# Altium integrated library NSC Logic Flip-Flop.IntLib: 466 symbols (part 3 of 10)
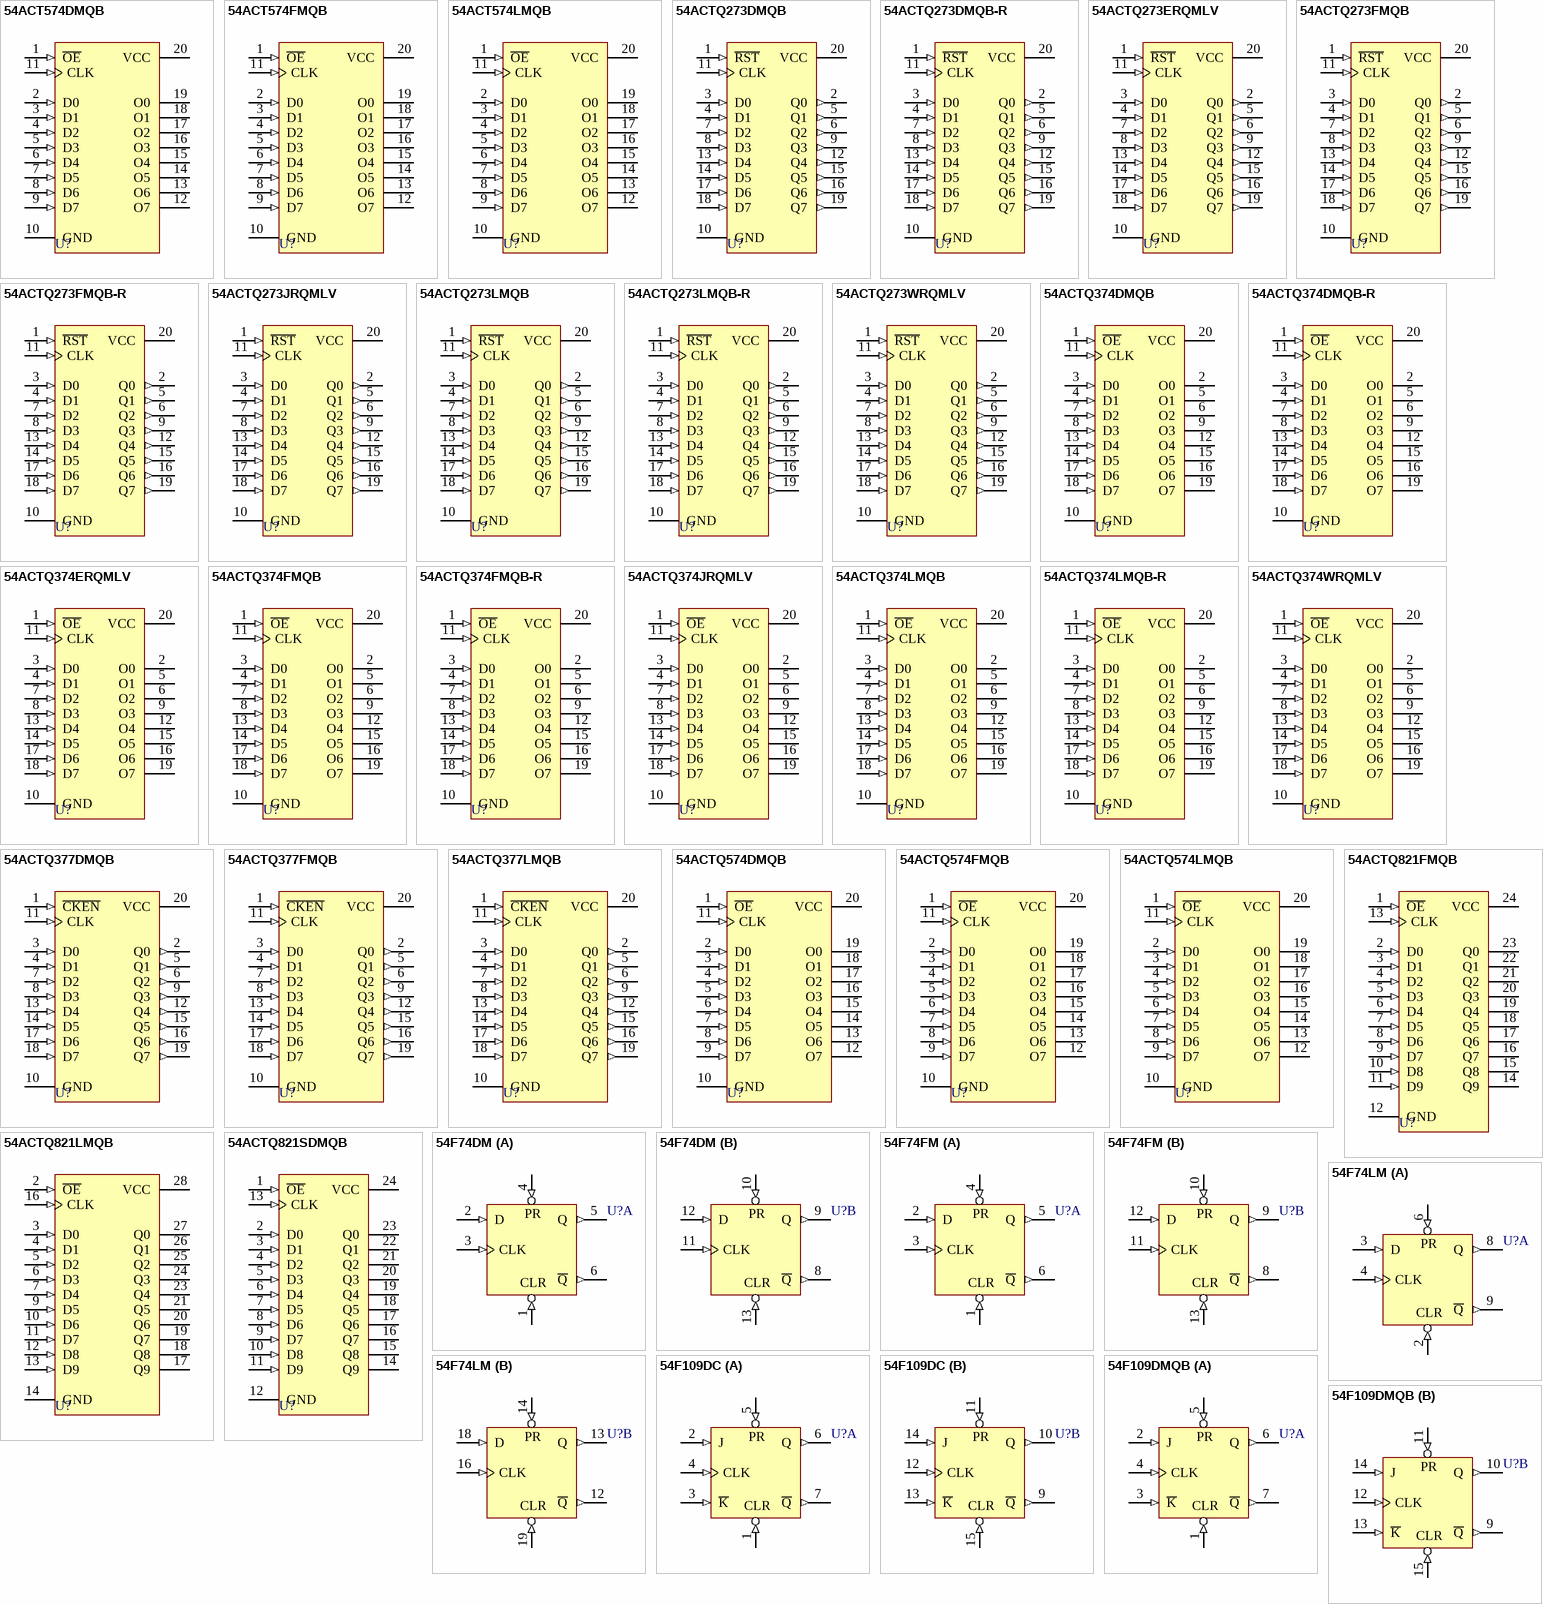
[diagram p17: symbols 54ACT574DMQB to 54F109DMQB]

## 54F109DMQB
designator U?
Dual J-K Positive Edge-Triggered Flip-Flop; Published: 15-Apr-2002; LatestRevisionDate: 06-Jun-2005; LatestRevisionNote: Stylized 3D Model Added.; DatasheetVersion: Nov-1994; PackageVersion: 2000; PackageReference: J16A; Publisher: Altium Limited; PackageDescription: DIP; 16 Leads; Row Spacing 7.62 mm; Pitch 2.54 mm; ComponentLink1Description: Manufacturer Link; ComponentLink1URL: http://www.national.com/; ComponentLink2Description: Datasheet; ComponentLink2URL: http://www.national.com/ds.cgi/54/54F109.pdf; ComponentLink3Description: URL Link1; ComponentLink3URL: http://www.national.com/pf/54/54F109.html
footprint J16A (DIP; 16 Leads; Row Spacing 7.62 mm; Pitch 2.54 mm)
3D model J16A (DIP; 16 Leads; Row Spacing 7.62 mm; Pitch 2.54 mm)
simulation model 74F109 (SIMCODE)
signal-integrity model 54F109DMQB
pins on every part: 8 GND (power) hidden to GND, 16 VCC (power) hidden to VCC
part A pins: 1 CLR (in), 2 J (in), 3 ~{K} (in), 4 CLK (in), 5 PR (in), 6 Q (out), 7 ~{Q} (out)
part B pins: 9 ~{Q} (out), 10 Q (out), 11 PR (in), 12 CLK (in), 13 ~{K} (in), 14 J (in), 15 CLR (in)

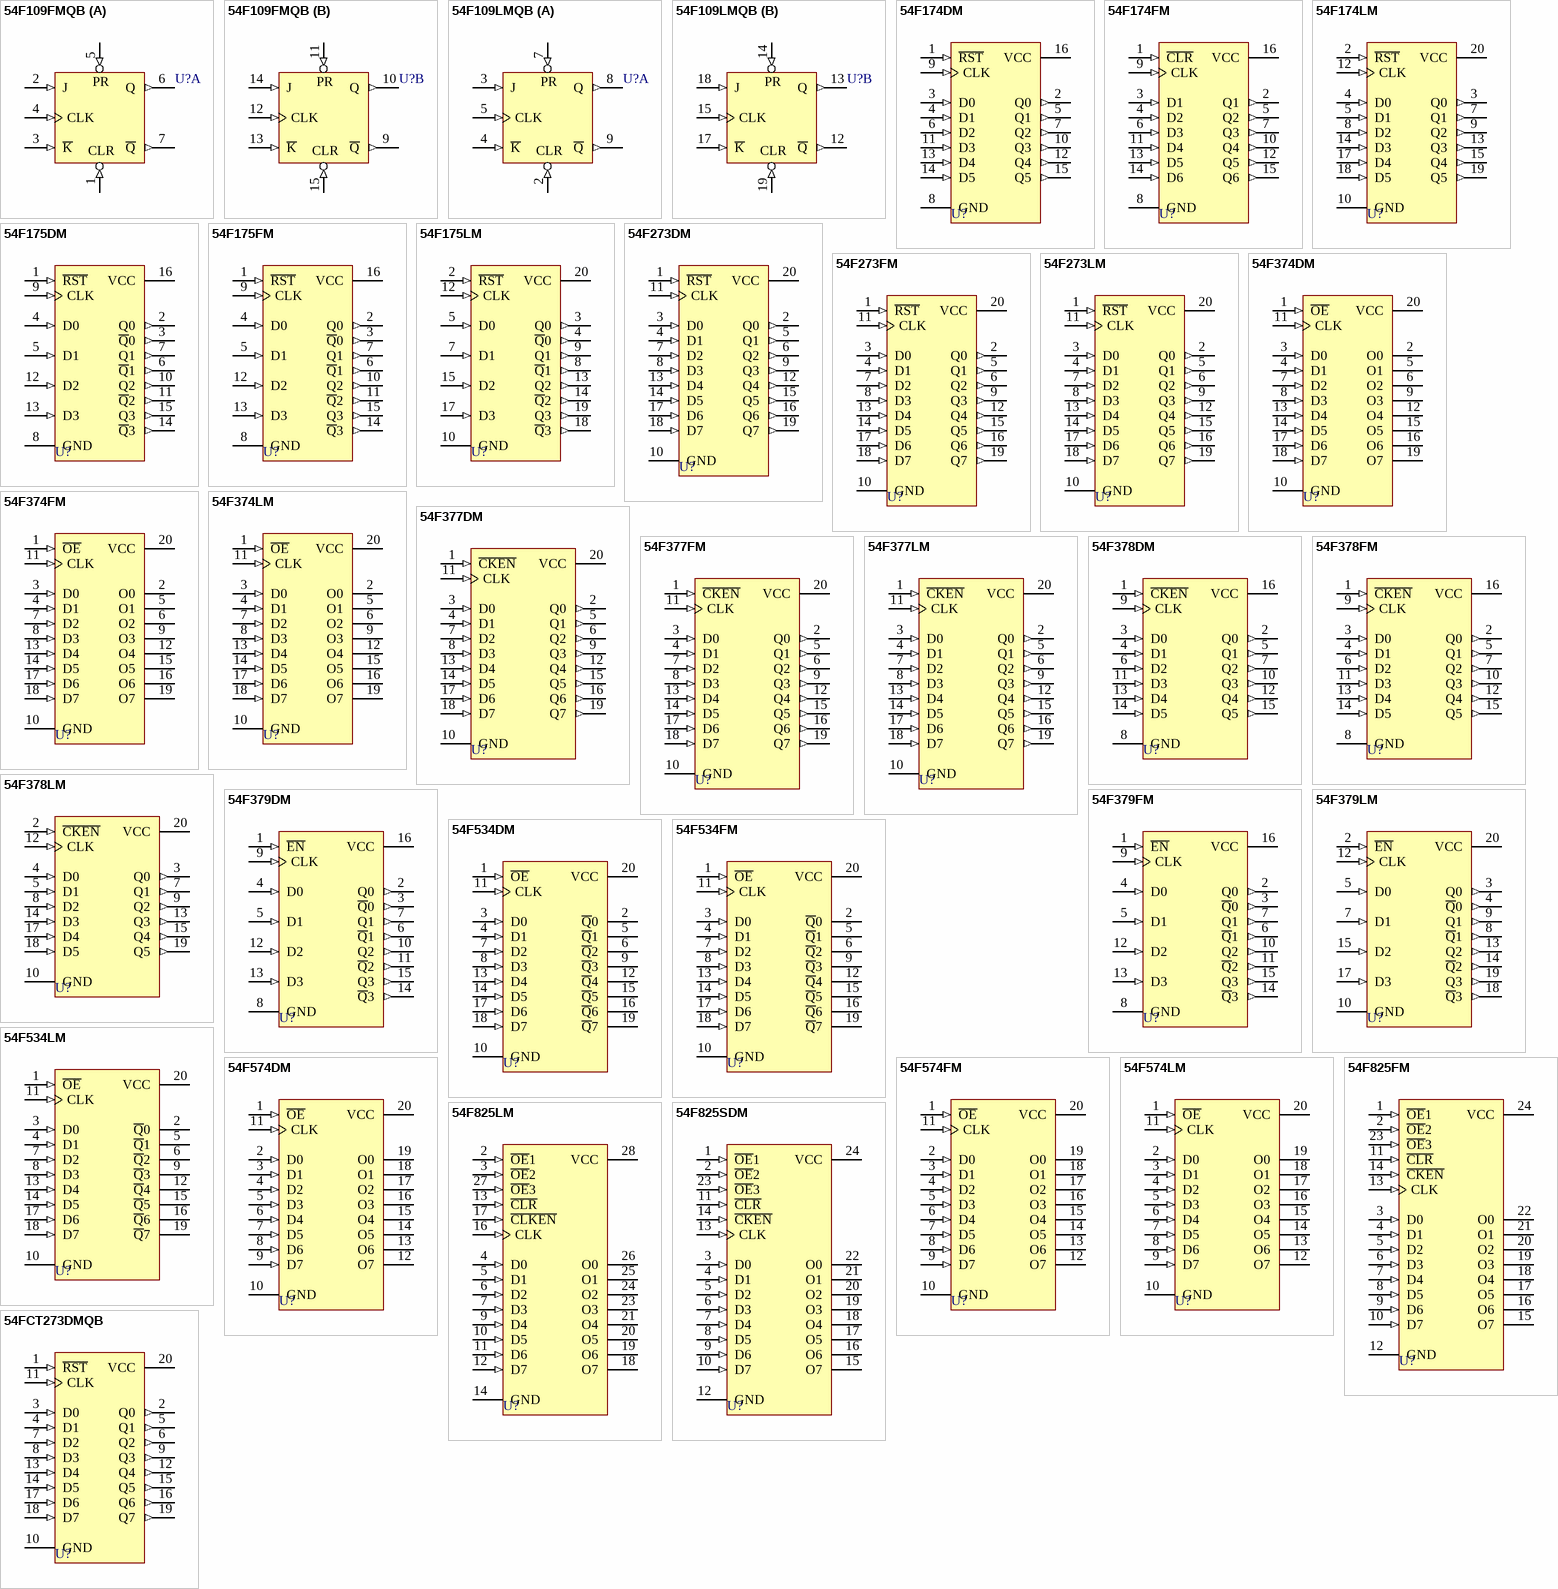
[diagram p3: symbols 54F109FMQB to 54FCT273DMQB]

## 54F109FMQB
designator U?
Dual J-K Positive Edge-Triggered Flip-Flop; Published: 15-Apr-2002; LatestRevisionDate: 06-Jun-2005; LatestRevisionNote: Stylized 3D Model Added.; DatasheetVersion: Nov-1994; PackageVersion: 2000; PackageReference: W16A; Publisher: Altium Limited; PackageDescription: DFP; 16 Leads; Body 9.9 x 7.6 mm (LxW max); Pitch 1.27 mm; ComponentLink1Description: Manufacturer Link; ComponentLink1URL: http://www.national.com/; ComponentLink2Description: Datasheet; ComponentLink2URL: http://www.national.com/ds.cgi/54/54F109.pdf; ComponentLink3Description: URL Link1; ComponentLink3URL: http://www.national.com/pf/54/54F109.html
footprint W16A (DFP; 16 Leads; Body 9.9 x 7.6 mm (LxW max); Pitch 1.27 mm)
3D model W16A (DFP; 16 Leads; Body 9.9 x 7.6 mm (LxW max); Pitch 1.27 mm)
simulation model 74F109 (SIMCODE)
signal-integrity model 54F109FMQB
pins on every part: 8 GND (power) hidden to GND, 16 VCC (power) hidden to VCC
part A pins: 1 CLR (in), 2 J (in), 3 ~{K} (in), 4 CLK (in), 5 PR (in), 6 Q (out), 7 ~{Q} (out)
part B pins: 9 ~{Q} (out), 10 Q (out), 11 PR (in), 12 CLK (in), 13 ~{K} (in), 14 J (in), 15 CLR (in)

## 54F109LMQB
designator U?
Dual J-K Positive Edge-Triggered Flip-Flop; Note: Pins 1, 6, 11 and 16 are not connected and not drawn.; Published: 15-Apr-2002; DatasheetVersion: Nov-1994; PackageVersion: 2000; PackageReference: E20A; Publisher: Altium Limited; PackageDescription: Leadless Chip Carrier; 20 Terminals; Body 8.9 x 8.9 mm; ComponentLink1Description: Manufacturer Link; ComponentLink1URL: http://www.national.com/; ComponentLink2Description: Datasheet; ComponentLink2URL: http://www.national.com/ds.cgi/54/54F109.pdf; ComponentLink3Description: URL Link1; ComponentLink3URL: http://www.national.com/pf/54/54F109.html
footprint E20A (Leadless Chip Carrier; 20 Terminals; Body 8.9 x 8.9 mm)
simulation model 74F109 (SIMCODE)
signal-integrity model 54F109LMQB
pins on every part: 10 GND (power) hidden to GND, 20 VCC (power) hidden to VCC
part A pins: 2 CLR (in), 3 J (in), 4 ~{K} (in), 5 CLK (in), 7 PR (in), 8 Q (out), 9 ~{Q} (out)
part B pins: 12 ~{Q} (out), 13 Q (out), 14 PR (in), 15 CLK (in), 17 ~{K} (in), 18 J (in), 19 CLR (in)

## 54F174DM
designator U?
Hex D-Type Flip-Flop with Master Reset; Published: 15-Apr-2002; LatestRevisionDate: 06-Jun-2005; LatestRevisionNote: Stylized 3D Model Added.; DatasheetVersion: Nov-1994; PackageVersion: 2000; PackageReference: J16A; Publisher: Altium Limited; PackageDescription: DIP; 16 Leads; Row Spacing 7.62 mm; Pitch 2.54 mm; ComponentLink1Description: Manufacturer Link; ComponentLink1URL: http://www.national.com/; ComponentLink2Description: Datasheet; ComponentLink2URL: http://www.national.com/ds.cgi/54/54F174.pdf; ComponentLink3Description: URL Link1; ComponentLink3URL: http://www.national.com/pf/54/54F174.html
footprint J16A (DIP; 16 Leads; Row Spacing 7.62 mm; Pitch 2.54 mm)
3D model J16A (DIP; 16 Leads; Row Spacing 7.62 mm; Pitch 2.54 mm)
simulation model 74F174 (SIMCODE)
signal-integrity model 54F174DM
pins: 1 ~{RST} (in), 2 Q0 (out), 3 D0 (in), 4 D1 (in), 5 Q1 (out), 6 D2 (in), 7 Q2 (out), 8 GND (power), 9 CLK (in), 10 Q3 (out), 11 D3 (in), 12 Q4 (out), 13 D4 (in), 14 D5 (in), 15 Q5 (out), 16 VCC (power)

## 54F174FM
designator U?
Hex D-Type Flip-Flop with Master Reset; Published: 15-Apr-2002; LatestRevisionDate: 06-Jun-2005; LatestRevisionNote: Stylized 3D Model Added.; DatasheetVersion: Nov-1994; PackageVersion: 2000; PackageReference: W16A; Publisher: Altium Limited; PackageDescription: DFP; 16 Leads; Body 9.9 x 7.6 mm (LxW max); Pitch 1.27 mm; ComponentLink1Description: Manufacturer Link; ComponentLink1URL: http://www.national.com/; ComponentLink2Description: Datasheet; ComponentLink2URL: http://www.national.com/ds.cgi/54/54F174.pdf; ComponentLink3Description: URL Link1; ComponentLink3URL: http://www.national.com/pf/54/54F174.html
footprint W16A (DFP; 16 Leads; Body 9.9 x 7.6 mm (LxW max); Pitch 1.27 mm)
3D model W16A (DFP; 16 Leads; Body 9.9 x 7.6 mm (LxW max); Pitch 1.27 mm)
simulation model 74F174 (SIMCODE)
signal-integrity model 54F174FM
pins: 1 ~{CLR} (in), 2 Q1 (out), 3 D1 (in), 4 D2 (in), 5 Q2 (out), 6 D3 (in), 7 Q3 (out), 8 GND (power), 9 CLK (in), 10 Q4 (out), 11 D4 (in), 12 Q5 (out), 13 D5 (in), 14 D6 (in), 15 Q6 (out), 16 VCC (power)

## 54F174LM
designator U?
Hex D-Type Flip-Flop with Master Reset; Note: Pins 1, 6, 11 and 16 are not connected and not drawn.; Published: 15-Apr-2002; DatasheetVersion: Nov-1994; PackageVersion: 2000; PackageReference: E20A; Publisher: Altium Limited; PackageDescription: Leadless Chip Carrier; 20 Terminals; Body 8.9 x 8.9 mm; ComponentLink1Description: Manufacturer Link; ComponentLink1URL: http://www.national.com/; ComponentLink2Description: Datasheet; ComponentLink2URL: http://www.national.com/ds.cgi/54/54F174.pdf; ComponentLink3Description: URL Link1; ComponentLink3URL: http://www.national.com/pf/54/54F174.html
footprint E20A (Leadless Chip Carrier; 20 Terminals; Body 8.9 x 8.9 mm)
simulation model 74F174 (SIMCODE)
signal-integrity model 54F174LM
pins: 2 ~{RST} (in), 3 Q0 (out), 4 D0 (in), 5 D1 (in), 7 Q1 (out), 8 D2 (in), 9 Q2 (out), 10 GND (power), 12 CLK (in), 13 Q3 (out), 14 D3 (in), 15 Q4 (out), 17 D4 (in), 18 D5 (in), 19 Q5 (out), 20 VCC (power)

## 54F175DM
designator U?
Quad D-Type Flip-Flop; Published: 15-Apr-2002; LatestRevisionDate: 06-Jun-2005; LatestRevisionNote: Stylized 3D Model Added.; DatasheetVersion: Nov-1994; PackageVersion: 2000; PackageReference: J16A; Publisher: Altium Limited; PackageDescription: DIP; 16 Leads; Row Spacing 7.62 mm; Pitch 2.54 mm; ComponentLink1Description: Manufacturer Link; ComponentLink1URL: http://www.national.com/; ComponentLink2Description: Datasheet; ComponentLink2URL: http://www.national.com/ds.cgi/54/54F175.pdf; ComponentLink3Description: URL Link1; ComponentLink3URL: http://www.national.com/pf/54/54F175.html
footprint J16A (DIP; 16 Leads; Row Spacing 7.62 mm; Pitch 2.54 mm)
3D model J16A (DIP; 16 Leads; Row Spacing 7.62 mm; Pitch 2.54 mm)
simulation model 74F175 (SIMCODE)
signal-integrity model 54F175DM
pins: 1 ~{RST} (in), 2 Q0 (out), 3 ~{Q}0 (out), 4 D0 (in), 5 D1 (in), 6 ~{Q}1 (out), 7 Q1 (out), 8 GND (power), 9 CLK (in), 10 Q2 (out), 11 ~{Q}2 (out), 12 D2 (in), 13 D3 (in), 14 ~{Q}3 (out), 15 Q3 (out), 16 VCC (power)

## 54F175FM
designator U?
Quad D-Type Flip-Flop; Published: 15-Apr-2002; LatestRevisionDate: 06-Jun-2005; LatestRevisionNote: Stylized 3D Model Added.; DatasheetVersion: Nov-1994; PackageVersion: 2000; PackageReference: W16A; Publisher: Altium Limited; PackageDescription: DFP; 16 Leads; Body 9.9 x 7.6 mm (LxW max); Pitch 1.27 mm; ComponentLink1Description: Manufacturer Link; ComponentLink1URL: http://www.national.com/; ComponentLink2Description: Datasheet; ComponentLink2URL: http://www.national.com/ds.cgi/54/54F175.pdf; ComponentLink3Description: URL Link1; ComponentLink3URL: http://www.national.com/pf/54/54F175.html
footprint W16A (DFP; 16 Leads; Body 9.9 x 7.6 mm (LxW max); Pitch 1.27 mm)
3D model W16A (DFP; 16 Leads; Body 9.9 x 7.6 mm (LxW max); Pitch 1.27 mm)
simulation model 74F175 (SIMCODE)
signal-integrity model 54F175FM
pins: 1 ~{RST} (in), 2 Q0 (out), 3 ~{Q}0 (out), 4 D0 (in), 5 D1 (in), 6 ~{Q}1 (out), 7 Q1 (out), 8 GND (power), 9 CLK (in), 10 Q2 (out), 11 ~{Q}2 (out), 12 D2 (in), 13 D3 (in), 14 ~{Q}3 (out), 15 Q3 (out), 16 VCC (power)

## 54F175LM
designator U?
Quad D-Type Flip-Flop; Note: Pins 1, 6, 11 and 16 are not connected and not drawn.; Published: 15-Apr-2002; DatasheetVersion: Nov-1994; PackageVersion: 2000; PackageReference: E20A; Publisher: Altium Limited; PackageDescription: Leadless Chip Carrier; 20 Terminals; Body 8.9 x 8.9 mm; ComponentLink1Description: Manufacturer Link; ComponentLink1URL: http://www.national.com/; ComponentLink2Description: Datasheet; ComponentLink2URL: http://www.national.com/ds.cgi/54/54F175.pdf; ComponentLink3Description: URL Link1; ComponentLink3URL: http://www.national.com/pf/54/54F175.html
footprint E20A (Leadless Chip Carrier; 20 Terminals; Body 8.9 x 8.9 mm)
simulation model 74F175 (SIMCODE)
signal-integrity model 54F175LM
pins: 2 ~{RST} (in), 3 Q0 (out), 4 ~{Q}0 (out), 5 D0 (in), 7 D1 (in), 8 ~{Q}1 (out), 9 Q1 (out), 10 GND (power), 12 CLK (in), 13 Q2 (out), 14 ~{Q}2 (out), 15 D2 (in), 17 D3 (in), 18 ~{Q}3 (out), 19 Q3 (out), 20 VCC (power)

## 54F273DM
designator U?
Octal D-Type Flip-Flop; ComponentAvailability: Obsolete; Published: 15-Apr-2002; LatestRevisionDate: 06-Jun-2005; LatestRevisionNote: Stylized 3D Model Added.; DatasheetVersion: May-1995; PackageVersion: 2000; PackageReference: J20A; Publisher: Altium Limited; PackageDescription: DIP; 20 Leads; Row Spacing 7.62 mm; Pitch 2.54 mm; Code_JEDEC: MS-015-AE; ComponentLink1Description: Manufacturer Link; ComponentLink1URL: http://www.national.com/; ComponentLink2Description: Datasheet; ComponentLink2URL: http://www.national.com/ds.cgi/54/54F273.pdf; ComponentLink3Description: Discontinuation Notice; ComponentLink3URL: http://www.national.com/obs/obsolescence.txt; ComponentLink4Description: URL Link1; ComponentLink4URL: http://www.national.com/pf/54/54F273.html
footprint J20A (DIP; 20 Leads; Row Spacing 7.62 mm; Pitch 2.54 mm)
3D model J20A (DIP; 20 Leads; Row Spacing 7.62 mm; Pitch 2.54 mm)
simulation model 74F273 (SIMCODE)
signal-integrity model 54F273DM
pins: 1 ~{RST} (in), 2 Q0 (out), 3 D0 (in), 4 D1 (in), 5 Q1 (out), 6 Q2 (out), 7 D2 (in), 8 D3 (in), 9 Q3 (out), 10 GND (power), 11 CLK (in), 12 Q4 (out), 13 D4 (in), 14 D5 (in), 15 Q5 (out), 16 Q6 (out), 17 D6 (in), 18 D7 (in), 19 Q7 (out), 20 VCC (power)

## 54F273FM
designator U?
Octal D-Type Flip-Flop; Published: 15-Apr-2002; LatestRevisionDate: 06-Jun-2005; LatestRevisionNote: Stylized 3D Model Added.; DatasheetVersion: May-1995; PackageVersion: 2000; PackageReference: W20A; Publisher: Altium Limited; PackageDescription: DFP; 20 Leads; Body 13.7 x 7.2 mm (LxW max); Pitch 1.27 mm; ComponentLink1Description: Manufacturer Link; ComponentLink1URL: http://www.national.com/; ComponentLink2Description: Datasheet; ComponentLink2URL: http://www.national.com/ds.cgi/54/54F273.pdf; ComponentLink3Description: URL Link1; ComponentLink3URL: http://www.national.com/pf/54/54F273.html
footprint W20A (DFP; 20 Leads; Body 13.7 x 7.2 mm (LxW max); Pitch 1.27 mm)
3D model W20A (DFP; 20 Leads; Body 13.7 x 7.2 mm (LxW max); Pitch 1.27 mm)
simulation model 74F273 (SIMCODE)
signal-integrity model 54F273FM
pins: 1 ~{RST} (in), 2 Q0 (out), 3 D0 (in), 4 D1 (in), 5 Q1 (out), 6 Q2 (out), 7 D2 (in), 8 D3 (in), 9 Q3 (out), 10 GND (power), 11 CLK (in), 12 Q4 (out), 13 D4 (in), 14 D5 (in), 15 Q5 (out), 16 Q6 (out), 17 D6 (in), 18 D7 (in), 19 Q7 (out), 20 VCC (power)

## 54F273LM
designator U?
Octal D-Type Flip-Flop; Published: 15-Apr-2002; DatasheetVersion: May-1995; PackageVersion: 2000; PackageReference: E20A; Publisher: Altium Limited; PackageDescription: Leadless Chip Carrier; 20 Terminals; Body 8.9 x 8.9 mm; ComponentLink1Description: Manufacturer Link; ComponentLink1URL: http://www.national.com/; ComponentLink2Description: Datasheet; ComponentLink2URL: http://www.national.com/ds.cgi/54/54F273.pdf; ComponentLink3Description: URL Link1; ComponentLink3URL: http://www.national.com/pf/54/54F273.html
footprint E20A (Leadless Chip Carrier; 20 Terminals; Body 8.9 x 8.9 mm)
simulation model 74F273 (SIMCODE)
signal-integrity model 54F273LM
pins: 1 ~{RST} (in), 2 Q0 (out), 3 D0 (in), 4 D1 (in), 5 Q1 (out), 6 Q2 (out), 7 D2 (in), 8 D3 (in), 9 Q3 (out), 10 GND (power), 11 CLK (in), 12 Q4 (out), 13 D4 (in), 14 D5 (in), 15 Q5 (out), 16 Q6 (out), 17 D6 (in), 18 D7 (in), 19 Q7 (out), 20 VCC (power)

## 54F374DM
designator U?
Octal D-Type Flip-Flop with Tri-State Output; ComponentAvailability: Obsolete; Published: 15-Apr-2002; LatestRevisionDate: 06-Jun-2005; LatestRevisionNote: Stylized 3D Model Added.; DatasheetVersion: May-1995; PackageVersion: 2000; PackageReference: J20A; Publisher: Altium Limited; PackageDescription: DIP; 20 Leads; Row Spacing 7.62 mm; Pitch 2.54 mm; Code_JEDEC: MS-015-AE; ComponentLink1Description: Manufacturer Link; ComponentLink1URL: http://www.national.com/; ComponentLink2Description: Datasheet; ComponentLink2URL: http://www.national.com/ds.cgi/54/54F374.pdf; ComponentLink3Description: Discontinuation Notice; ComponentLink3URL: http://www.national.com/obs/obsolescence.txt; ComponentLink4Description: URL Link1; ComponentLink4URL: http://www.national.com/pf/54/54F374.html
footprint J20A (DIP; 20 Leads; Row Spacing 7.62 mm; Pitch 2.54 mm)
3D model J20A (DIP; 20 Leads; Row Spacing 7.62 mm; Pitch 2.54 mm)
simulation model 74F374 (SIMCODE)
signal-integrity model 54F374DM
pins: 1 ~{OE} (in), 2 O0 (hiz), 3 D0 (in), 4 D1 (in), 5 O1 (hiz), 6 O2 (hiz), 7 D2 (in), 8 D3 (in), 9 O3 (hiz), 10 GND (power), 11 CLK (in), 12 O4 (hiz), 13 D4 (in), 14 D5 (in), 15 O5 (hiz), 16 O6 (hiz), 17 D6 (in), 18 D7 (in), 19 O7 (hiz), 20 VCC (power)

## 54F374FM
designator U?
Octal D-Type Flip-Flop with Tri-State Output; Published: 15-Apr-2002; LatestRevisionDate: 06-Jun-2005; LatestRevisionNote: Stylized 3D Model Added.; DatasheetVersion: May-1995; PackageVersion: 2000; PackageReference: W20A; Publisher: Altium Limited; PackageDescription: DFP; 20 Leads; Body 13.7 x 7.2 mm (LxW max); Pitch 1.27 mm; ComponentLink1Description: Manufacturer Link; ComponentLink1URL: http://www.national.com/; ComponentLink2Description: Datasheet; ComponentLink2URL: http://www.national.com/ds.cgi/54/54F374.pdf; ComponentLink3Description: URL Link1; ComponentLink3URL: http://www.national.com/pf/54/54F374.html
footprint W20A (DFP; 20 Leads; Body 13.7 x 7.2 mm (LxW max); Pitch 1.27 mm)
3D model W20A (DFP; 20 Leads; Body 13.7 x 7.2 mm (LxW max); Pitch 1.27 mm)
simulation model 74F374 (SIMCODE)
signal-integrity model 54F374FM
pins: 1 ~{OE} (in), 2 O0 (hiz), 3 D0 (in), 4 D1 (in), 5 O1 (hiz), 6 O2 (hiz), 7 D2 (in), 8 D3 (in), 9 O3 (hiz), 10 GND (power), 11 CLK (in), 12 O4 (hiz), 13 D4 (in), 14 D5 (in), 15 O5 (hiz), 16 O6 (hiz), 17 D6 (in), 18 D7 (in), 19 O7 (hiz), 20 VCC (power)

## 54F374LM
designator U?
Octal D-Type Flip-Flop with Tri-State Output; Published: 15-Apr-2002; DatasheetVersion: May-1995; PackageVersion: 2000; PackageReference: E20A; Publisher: Altium Limited; PackageDescription: Leadless Chip Carrier; 20 Terminals; Body 8.9 x 8.9 mm; ComponentLink1Description: Manufacturer Link; ComponentLink1URL: http://www.national.com/; ComponentLink2Description: Datasheet; ComponentLink2URL: http://www.national.com/ds.cgi/54/54F374.pdf; ComponentLink3Description: URL Link1; ComponentLink3URL: http://www.national.com/pf/54/54F374.html
footprint E20A (Leadless Chip Carrier; 20 Terminals; Body 8.9 x 8.9 mm)
simulation model 74F374 (SIMCODE)
signal-integrity model 54F374LM
pins: 1 ~{OE} (in), 2 O0 (hiz), 3 D0 (in), 4 D1 (in), 5 O1 (hiz), 6 O2 (hiz), 7 D2 (in), 8 D3 (in), 9 O3 (hiz), 10 GND (power), 11 CLK (in), 12 O4 (hiz), 13 D4 (in), 14 D5 (in), 15 O5 (hiz), 16 O6 (hiz), 17 D6 (in), 18 D7 (in), 19 O7 (hiz), 20 VCC (power)

## 54F377DM
designator U?
Octal D-Type Flip-Flop with Clock Enable; Published: 15-Apr-2002; LatestRevisionDate: 06-Jun-2005; LatestRevisionNote: Stylized 3D Model Added.; DatasheetVersion: May-1995; PackageVersion: 2000; PackageReference: J20A; Publisher: Altium Limited; PackageDescription: DIP; 20 Leads; Row Spacing 7.62 mm; Pitch 2.54 mm; Code_JEDEC: MS-015-AE; ComponentLink1Description: Manufacturer Link; ComponentLink1URL: http://www.national.com/; ComponentLink2Description: Datasheet; ComponentLink2URL: http://www.national.com/ds.cgi/54/54F377.pdf; ComponentLink3Description: URL Link1; ComponentLink3URL: http://www.national.com/pf/54/54F377.html
footprint J20A (DIP; 20 Leads; Row Spacing 7.62 mm; Pitch 2.54 mm)
3D model J20A (DIP; 20 Leads; Row Spacing 7.62 mm; Pitch 2.54 mm)
simulation model 74F377 (SIMCODE)
signal-integrity model 54F377DM
pins: 1 ~{CKEN} (in), 2 Q0 (out), 3 D0 (in), 4 D1 (in), 5 Q1 (out), 6 Q2 (out), 7 D2 (in), 8 D3 (in), 9 Q3 (out), 10 GND (power), 11 CLK (in), 12 Q4 (out), 13 D4 (in), 14 D5 (in), 15 Q5 (out), 16 Q6 (out), 17 D6 (in), 18 D7 (in), 19 Q7 (out), 20 VCC (power)

## 54F377FM
designator U?
Octal D-Type Flip-Flop with Clock Enable; Published: 15-Apr-2002; LatestRevisionDate: 06-Jun-2005; LatestRevisionNote: Stylized 3D Model Added.; DatasheetVersion: May-1995; PackageVersion: 2000; PackageReference: W20A; Publisher: Altium Limited; PackageDescription: DFP; 20 Leads; Body 13.7 x 7.2 mm (LxW max); Pitch 1.27 mm; ComponentLink1Description: Manufacturer Link; ComponentLink1URL: http://www.national.com/; ComponentLink2Description: Datasheet; ComponentLink2URL: http://www.national.com/ds.cgi/54/54F377.pdf; ComponentLink3Description: URL Link1; ComponentLink3URL: http://www.national.com/pf/54/54F377.html
footprint W20A (DFP; 20 Leads; Body 13.7 x 7.2 mm (LxW max); Pitch 1.27 mm)
3D model W20A (DFP; 20 Leads; Body 13.7 x 7.2 mm (LxW max); Pitch 1.27 mm)
simulation model 74F377 (SIMCODE)
signal-integrity model 54F377FM
pins: 1 ~{CKEN} (in), 2 Q0 (out), 3 D0 (in), 4 D1 (in), 5 Q1 (out), 6 Q2 (out), 7 D2 (in), 8 D3 (in), 9 Q3 (out), 10 GND (power), 11 CLK (in), 12 Q4 (out), 13 D4 (in), 14 D5 (in), 15 Q5 (out), 16 Q6 (out), 17 D6 (in), 18 D7 (in), 19 Q7 (out), 20 VCC (power)

## 54F377LM
designator U?
Octal D-Type Flip-Flop with Clock Enable; Published: 15-Apr-2002; DatasheetVersion: May-1995; PackageVersion: 2000; PackageReference: E20A; Publisher: Altium Limited; PackageDescription: Leadless Chip Carrier; 20 Terminals; Body 8.9 x 8.9 mm; ComponentLink1Description: Manufacturer Link; ComponentLink1URL: http://www.national.com/; ComponentLink2Description: Datasheet; ComponentLink2URL: http://www.national.com/ds.cgi/54/54F377.pdf; ComponentLink3Description: URL Link1; ComponentLink3URL: http://www.national.com/pf/54/54F377.html
footprint E20A (Leadless Chip Carrier; 20 Terminals; Body 8.9 x 8.9 mm)
simulation model 74F377 (SIMCODE)
signal-integrity model 54F377LM
pins: 1 ~{CKEN} (in), 2 Q0 (out), 3 D0 (in), 4 D1 (in), 5 Q1 (out), 6 Q2 (out), 7 D2 (in), 8 D3 (in), 9 Q3 (out), 10 GND (power), 11 CLK (in), 12 Q4 (out), 13 D4 (in), 14 D5 (in), 15 Q5 (out), 16 Q6 (out), 17 D6 (in), 18 D7 (in), 19 Q7 (out), 20 VCC (power)

## 54F378DM
designator U?
Parallel D Register with Enable; ComponentAvailability: Obsolete; Published: 15-Apr-2002; LatestRevisionDate: 06-Jun-2005; LatestRevisionNote: Stylized 3D Model Added.; DatasheetVersion: Jan-1995; PackageVersion: 2000; PackageReference: J16A; Publisher: Altium Limited; PackageDescription: DIP; 16 Leads; Row Spacing 7.62 mm; Pitch 2.54 mm; ComponentLink1Description: Manufacturer Link; ComponentLink1URL: http://www.national.com/; ComponentLink2Description: Datasheet; ComponentLink2URL: http://www.national.com/ds.cgi/54/54F378.pdf; ComponentLink3Description: Discontinuation Notice; ComponentLink3URL: http://www.national.com/obs/obsolescence.txt; ComponentLink4Description: URL Link1; ComponentLink4URL: http://www.national.com/pf/54/54F378.html
footprint J16A (DIP; 16 Leads; Row Spacing 7.62 mm; Pitch 2.54 mm)
3D model J16A (DIP; 16 Leads; Row Spacing 7.62 mm; Pitch 2.54 mm)
simulation model 74F378 (SIMCODE)
signal-integrity model 54F378DM
pins: 1 ~{CKEN} (in), 2 Q0 (out), 3 D0 (in), 4 D1 (in), 5 Q1 (out), 6 D2 (in), 7 Q2 (out), 8 GND (power), 9 CLK (in), 10 Q3 (out), 11 D3 (in), 12 Q4 (out), 13 D4 (in), 14 D5 (in), 15 Q5 (out), 16 VCC (power)

## 54F378FM
designator U?
Parallel D Register with Enable; Published: 15-Apr-2002; LatestRevisionDate: 06-Jun-2005; LatestRevisionNote: Stylized 3D Model Added.; DatasheetVersion: Jan-1995; PackageVersion: 2000; PackageReference: W16A; Publisher: Altium Limited; PackageDescription: DFP; 16 Leads; Body 9.9 x 7.6 mm (LxW max); Pitch 1.27 mm; ComponentLink1Description: Manufacturer Link; ComponentLink1URL: http://www.national.com/; ComponentLink2Description: Datasheet; ComponentLink2URL: http://www.national.com/ds.cgi/54/54F378.pdf; ComponentLink3Description: URL Link1; ComponentLink3URL: http://www.national.com/pf/54/54F378.html
footprint W16A (DFP; 16 Leads; Body 9.9 x 7.6 mm (LxW max); Pitch 1.27 mm)
3D model W16A (DFP; 16 Leads; Body 9.9 x 7.6 mm (LxW max); Pitch 1.27 mm)
simulation model 74F378 (SIMCODE)
signal-integrity model 54F378FM
pins: 1 ~{CKEN} (in), 2 Q0 (out), 3 D0 (in), 4 D1 (in), 5 Q1 (out), 6 D2 (in), 7 Q2 (out), 8 GND (power), 9 CLK (in), 10 Q3 (out), 11 D3 (in), 12 Q4 (out), 13 D4 (in), 14 D5 (in), 15 Q5 (out), 16 VCC (power)

## 54F378LM
designator U?
Parallel D Register with Enable; Note: Pins 1, 6, 11 and 16 are not connected and not drawn.; Published: 15-Apr-2002; DatasheetVersion: Jan-1995; PackageVersion: 2000; PackageReference: E20A; Publisher: Altium Limited; PackageDescription: Leadless Chip Carrier; 20 Terminals; Body 8.9 x 8.9 mm; ComponentLink1Description: Manufacturer Link; ComponentLink1URL: http://www.national.com/; ComponentLink2Description: Datasheet; ComponentLink2URL: http://www.national.com/ds.cgi/54/54F378.pdf; ComponentLink3Description: URL Link1; ComponentLink3URL: http://www.national.com/pf/54/54F378.html
footprint E20A (Leadless Chip Carrier; 20 Terminals; Body 8.9 x 8.9 mm)
simulation model 74F378 (SIMCODE)
signal-integrity model 54F378LM
pins: 2 ~{CKEN} (in), 3 Q0 (out), 4 D0 (in), 5 D1 (in), 7 Q1 (out), 8 D2 (in), 9 Q2 (out), 10 GND (power), 12 CLK (in), 13 Q3 (out), 14 D3 (in), 15 Q4 (out), 17 D4 (in), 18 D5 (in), 19 Q5 (out), 20 VCC (power)

## 54F379DM
designator U?
Quad Parallel Register with Enable; ComponentAvailability: Obsolete; Published: 15-Apr-2002; LatestRevisionDate: 06-Jun-2005; LatestRevisionNote: Stylized 3D Model Added.; DatasheetVersion: Aug-1995; PackageVersion: 2000; PackageReference: J16A; Publisher: Altium Limited; PackageDescription: DIP; 16 Leads; Row Spacing 7.62 mm; Pitch 2.54 mm; ComponentLink1Description: Manufacturer Link; ComponentLink1URL: http://www.national.com/; ComponentLink2Description: Datasheet; ComponentLink2URL: http://www.national.com/ds.cgi/54/54F379.pdf; ComponentLink3Description: Discontinuation Notice; ComponentLink3URL: http://www.national.com/obs/obsolescence.txt; ComponentLink4Description: URL Link1; ComponentLink4URL: http://www.national.com/pf/54/54F379.html
footprint J16A (DIP; 16 Leads; Row Spacing 7.62 mm; Pitch 2.54 mm)
3D model J16A (DIP; 16 Leads; Row Spacing 7.62 mm; Pitch 2.54 mm)
signal-integrity model 54F379DM
pins: 1 ~{EN} (in), 2 Q0 (out), 3 ~{Q}0 (out), 4 D0 (in), 5 D1 (in), 6 ~{Q}1 (out), 7 Q1 (out), 8 GND (power), 9 CLK (in), 10 Q2 (out), 11 ~{Q}2 (out), 12 D2 (in), 13 D3 (in), 14 ~{Q}3 (out), 15 Q3 (out), 16 VCC (power)

## 54F379FM
designator U?
Quad Parallel Register with Enable; Published: 15-Apr-2002; LatestRevisionDate: 06-Jun-2005; LatestRevisionNote: Stylized 3D Model Added.; DatasheetVersion: Aug-1995; PackageVersion: 2000; PackageReference: W16A; Publisher: Altium Limited; PackageDescription: DFP; 16 Leads; Body 9.9 x 7.6 mm (LxW max); Pitch 1.27 mm; ComponentLink1Description: Manufacturer Link; ComponentLink1URL: http://www.national.com/; ComponentLink2Description: Datasheet; ComponentLink2URL: http://www.national.com/ds.cgi/54/54F379.pdf; ComponentLink3Description: URL Link1; ComponentLink3URL: http://www.national.com/pf/54/54F379.html
footprint W16A (DFP; 16 Leads; Body 9.9 x 7.6 mm (LxW max); Pitch 1.27 mm)
3D model W16A (DFP; 16 Leads; Body 9.9 x 7.6 mm (LxW max); Pitch 1.27 mm)
signal-integrity model 54F379FM
pins: 1 ~{EN} (in), 2 Q0 (out), 3 ~{Q}0 (out), 4 D0 (in), 5 D1 (in), 6 ~{Q}1 (out), 7 Q1 (out), 8 GND (power), 9 CLK (in), 10 Q2 (out), 11 ~{Q}2 (out), 12 D2 (in), 13 D3 (in), 14 ~{Q}3 (out), 15 Q3 (out), 16 VCC (power)

## 54F379LM
designator U?
Quad Parallel Register with Enable; Note: Pins 1,6,11 and 16 are not connected and not drawn.; Published: 15-Apr-2002; DatasheetVersion: Aug-1995; PackageVersion: 2000; PackageReference: E20A; Publisher: Altium Limited; PackageDescription: Leadless Chip Carrier; 20 Terminals; Body 8.9 x 8.9 mm; ComponentLink1Description: Manufacturer Link; ComponentLink1URL: http://www.national.com/; ComponentLink2Description: Datasheet; ComponentLink2URL: http://www.national.com/ds.cgi/54/54F379.pdf; ComponentLink3Description: URL Link1; ComponentLink3URL: http://www.national.com/pf/54/54F379.html
footprint E20A (Leadless Chip Carrier; 20 Terminals; Body 8.9 x 8.9 mm)
signal-integrity model 54F379LM
pins: 2 ~{EN} (in), 3 Q0 (out), 4 ~{Q}0 (out), 5 D0 (in), 7 D1 (in), 8 ~{Q}1 (out), 9 Q1 (out), 10 GND (power), 12 CLK (in), 13 Q2 (out), 14 ~{Q}2 (out), 15 D2 (in), 17 D3 (in), 18 ~{Q}3 (out), 19 Q3 (out), 20 VCC (power)

## 54F534DM
designator U?
Octal D-Type Flip-Flop with Tri-State Output; Published: 15-Apr-2002; LatestRevisionDate: 06-Jun-2005; LatestRevisionNote: Stylized 3D Model Added.; DatasheetVersion: May-1995; PackageVersion: 2000; PackageReference: J20A; Publisher: Altium Limited; PackageDescription: DIP; 20 Leads; Row Spacing 7.62 mm; Pitch 2.54 mm; Code_JEDEC: MS-015-AE; ComponentLink1Description: Manufacturer Link; ComponentLink1URL: http://www.national.com/; ComponentLink2Description: Datasheet; ComponentLink2URL: http://www.national.com/ds.cgi/54/54F534.pdf; ComponentLink3Description: URL Link1; ComponentLink3URL: http://www.national.com/pf/54/54F534.html
footprint J20A (DIP; 20 Leads; Row Spacing 7.62 mm; Pitch 2.54 mm)
3D model J20A (DIP; 20 Leads; Row Spacing 7.62 mm; Pitch 2.54 mm)
signal-integrity model 54F534DM
pins: 1 ~{OE} (in), 2 ~{Q}0 (hiz), 3 D0 (in), 4 D1 (in), 5 ~{Q}1 (hiz), 6 ~{Q}2 (hiz), 7 D2 (in), 8 D3 (in), 9 ~{Q}3 (hiz), 10 GND (power), 11 CLK (in), 12 ~{Q}4 (hiz), 13 D4 (in), 14 D5 (in), 15 ~{Q}5 (hiz), 16 ~{Q}6 (hiz), 17 D6 (in), 18 D7 (in), 19 ~{Q}7 (hiz), 20 VCC (power)

## 54F534FM
designator U?
Octal D-Type Flip-Flop with Tri-State Output; Published: 15-Apr-2002; LatestRevisionDate: 06-Jun-2005; LatestRevisionNote: Stylized 3D Model Added.; DatasheetVersion: May-1995; PackageVersion: 2000; PackageReference: W20A; Publisher: Altium Limited; PackageDescription: DFP; 20 Leads; Body 13.7 x 7.2 mm (LxW max); Pitch 1.27 mm; ComponentLink1Description: Manufacturer Link; ComponentLink1URL: http://www.national.com/; ComponentLink2Description: Datasheet; ComponentLink2URL: http://www.national.com/ds.cgi/54/54F534.pdf; ComponentLink3Description: URL Link1; ComponentLink3URL: http://www.national.com/pf/54/54F534.html
footprint W20A (DFP; 20 Leads; Body 13.7 x 7.2 mm (LxW max); Pitch 1.27 mm)
3D model W20A (DFP; 20 Leads; Body 13.7 x 7.2 mm (LxW max); Pitch 1.27 mm)
signal-integrity model 54F534FM
pins: 1 ~{OE} (in), 2 ~{Q}0 (hiz), 3 D0 (in), 4 D1 (in), 5 ~{Q}1 (hiz), 6 ~{Q}2 (hiz), 7 D2 (in), 8 D3 (in), 9 ~{Q}3 (hiz), 10 GND (power), 11 CLK (in), 12 ~{Q}4 (hiz), 13 D4 (in), 14 D5 (in), 15 ~{Q}5 (hiz), 16 ~{Q}6 (hiz), 17 D6 (in), 18 D7 (in), 19 ~{Q}7 (hiz), 20 VCC (power)

## 54F534LM
designator U?
Octal D-Type Flip-Flop with Tri-State Output; Published: 15-Apr-2002; DatasheetVersion: May-1995; PackageVersion: 2000; PackageReference: E20A; Publisher: Altium Limited; PackageDescription: Leadless Chip Carrier; 20 Terminals; Body 8.9 x 8.9 mm; ComponentLink1Description: Manufacturer Link; ComponentLink1URL: http://www.national.com/; ComponentLink2Description: Datasheet; ComponentLink2URL: http://www.national.com/ds.cgi/54/54F534.pdf; ComponentLink3Description: URL Link1; ComponentLink3URL: http://www.national.com/pf/54/54F534.html
footprint E20A (Leadless Chip Carrier; 20 Terminals; Body 8.9 x 8.9 mm)
signal-integrity model 54F534LM
pins: 1 ~{OE} (in), 2 ~{Q}0 (hiz), 3 D0 (in), 4 D1 (in), 5 ~{Q}1 (hiz), 6 ~{Q}2 (hiz), 7 D2 (in), 8 D3 (in), 9 ~{Q}3 (hiz), 10 GND (power), 11 CLK (in), 12 ~{Q}4 (hiz), 13 D4 (in), 14 D5 (in), 15 ~{Q}5 (hiz), 16 ~{Q}6 (hiz), 17 D6 (in), 18 D7 (in), 19 ~{Q}7 (hiz), 20 VCC (power)

## 54F574DM
designator U?
Octal D-Type Flip-Flop with Tri-State Output; Published: 15-Apr-2002; LatestRevisionDate: 06-Jun-2005; LatestRevisionNote: Stylized 3D Model Added.; DatasheetVersion: May-1995; PackageVersion: 2000; PackageReference: J20A; Publisher: Altium Limited; PackageDescription: DIP; 20 Leads; Row Spacing 7.62 mm; Pitch 2.54 mm; Code_JEDEC: MS-015-AE; ComponentLink1Description: Manufacturer Link; ComponentLink1URL: http://www.national.com/; ComponentLink2Description: Datasheet; ComponentLink2URL: http://www.national.com/ds.cgi/54/54F574.pdf; ComponentLink3Description: URL Link1; ComponentLink3URL: http://www.national.com/pf/54/54F574.html
footprint J20A (DIP; 20 Leads; Row Spacing 7.62 mm; Pitch 2.54 mm)
3D model J20A (DIP; 20 Leads; Row Spacing 7.62 mm; Pitch 2.54 mm)
signal-integrity model 54F574DM
pins: 1 ~{OE} (in), 2 D0 (in), 3 D1 (in), 4 D2 (in), 5 D3 (in), 6 D4 (in), 7 D5 (in), 8 D6 (in), 9 D7 (in), 10 GND (power), 11 CLK (in), 12 O7 (hiz), 13 O6 (hiz), 14 O5 (hiz), 15 O4 (hiz), 16 O3 (hiz), 17 O2 (hiz), 18 O1 (hiz), 19 O0 (hiz), 20 VCC (power)

## 54F574FM
designator U?
Octal D-Type Flip-Flop with Tri-State Output; Published: 15-Apr-2002; LatestRevisionDate: 06-Jun-2005; LatestRevisionNote: Stylized 3D Model Added.; DatasheetVersion: May-1995; PackageVersion: 2000; PackageReference: W20A; Publisher: Altium Limited; PackageDescription: DFP; 20 Leads; Body 13.7 x 7.2 mm (LxW max); Pitch 1.27 mm; ComponentLink1Description: Manufacturer Link; ComponentLink1URL: http://www.national.com/; ComponentLink2Description: Datasheet; ComponentLink2URL: http://www.national.com/ds.cgi/54/54F574.pdf; ComponentLink3Description: URL Link1; ComponentLink3URL: http://www.national.com/pf/54/54F574.html
footprint W20A (DFP; 20 Leads; Body 13.7 x 7.2 mm (LxW max); Pitch 1.27 mm)
3D model W20A (DFP; 20 Leads; Body 13.7 x 7.2 mm (LxW max); Pitch 1.27 mm)
signal-integrity model 54F574FM
pins: 1 ~{OE} (in), 2 D0 (in), 3 D1 (in), 4 D2 (in), 5 D3 (in), 6 D4 (in), 7 D5 (in), 8 D6 (in), 9 D7 (in), 10 GND (power), 11 CLK (in), 12 O7 (hiz), 13 O6 (hiz), 14 O5 (hiz), 15 O4 (hiz), 16 O3 (hiz), 17 O2 (hiz), 18 O1 (hiz), 19 O0 (hiz), 20 VCC (power)

## 54F574LM
designator U?
Octal D-Type Flip-Flop with Tri-State Output; Published: 15-Apr-2002; DatasheetVersion: May-1995; PackageVersion: 2000; PackageReference: E20A; Publisher: Altium Limited; PackageDescription: Leadless Chip Carrier; 20 Terminals; Body 8.9 x 8.9 mm; ComponentLink1Description: Manufacturer Link; ComponentLink1URL: http://www.national.com/; ComponentLink2Description: Datasheet; ComponentLink2URL: http://www.national.com/ds.cgi/54/54F574.pdf; ComponentLink3Description: URL Link1; ComponentLink3URL: http://www.national.com/pf/54/54F574.html
footprint E20A (Leadless Chip Carrier; 20 Terminals; Body 8.9 x 8.9 mm)
signal-integrity model 54F574LM
pins: 1 ~{OE} (in), 2 D0 (in), 3 D1 (in), 4 D2 (in), 5 D3 (in), 6 D4 (in), 7 D5 (in), 8 D6 (in), 9 D7 (in), 10 GND (power), 11 CLK (in), 12 O7 (hiz), 13 O6 (hiz), 14 O5 (hiz), 15 O4 (hiz), 16 O3 (hiz), 17 O2 (hiz), 18 O1 (hiz), 19 O0 (hiz), 20 VCC (power)

## 54F825FM
designator U?
8-Bit D-Type Flip-Flop; Published: 15-Apr-2002; LatestRevisionDate: 06-Jun-2005; LatestRevisionNote: Stylized 3D Model Added.; DatasheetVersion: Dec-1994; PackageVersion: 2000; PackageReference: W24C; Publisher: Altium Limited; PackageDescription: DFP; 24 Leads; Body 15.6 x 10.7 mm (LxW max); Pitch 1.27 mm; ComponentLink1Description: Manufacturer Link; ComponentLink1URL: http://www.national.com/; ComponentLink2Description: Datasheet; ComponentLink2URL: http://www.national.com/ds.cgi/54/54F825.pdf; ComponentLink3Description: URL Link1; ComponentLink3URL: http://www.national.com/pf/54/54F825.html
footprint W24C (DFP; 24 Leads; Body 15.6 x 10.7 mm (LxW max); Pitch 1.27 mm)
3D model W24C (DFP; 24 Leads; Body 15.6 x 10.7 mm (LxW max); Pitch 1.27 mm)
signal-integrity model 54F825FM
pins: 1 ~{OE}1 (in), 2 ~{OE}2 (in), 3 D0 (in), 4 D1 (in), 5 D2 (in), 6 D3 (in), 7 D4 (in), 8 D5 (in), 9 D6 (in), 10 D7 (in), 11 ~{CLR} (in), 12 GND (power), 13 CLK (in), 14 ~{CKEN} (in), 15 O7 (hiz), 16 O6 (hiz), 17 O5 (hiz), 18 O4 (hiz), 19 O3 (hiz), 20 O2 (hiz), 21 O1 (hiz), 22 O0 (hiz), 23 ~{OE}3 (in), 24 VCC (power)

## 54F825LM
designator U?
8-Bit D-Type Flip-Flop; Note: Pins 1, 8, 15 and 22 are not connected and not drawn.; Published: 15-Apr-2002; DatasheetVersion: Dec-1994; PackageVersion: 2000; PackageReference: E28A; Publisher: Altium Limited; PackageDescription: Leadless Chip Carrier; 28 Terminals; Body 11.4 x 11.4 mm; ComponentLink1Description: Manufacturer Link; ComponentLink1URL: http://www.national.com/; ComponentLink2Description: Datasheet; ComponentLink2URL: http://www.national.com/ds.cgi/54/54F825.pdf; ComponentLink3Description: URL Link1; ComponentLink3URL: http://www.national.com/pf/54/54F825.html
footprint E28A (Leadless Chip Carrier; 28 Terminals; Body 11.4 x 11.4 mm)
signal-integrity model 54F825LM
pins: 2 ~{OE}1 (in), 3 ~{OE}2 (in), 4 D0 (in), 5 D1 (in), 6 D2 (in), 7 D3 (in), 9 D4 (in), 10 D5 (in), 11 D6 (in), 12 D7 (in), 13 ~{CLR} (in), 14 GND (power), 16 CLK (in), 17 ~{CLKEN} (in), 18 O7 (hiz), 19 O6 (hiz), 20 O5 (hiz), 21 O4 (hiz), 23 O3 (hiz), 24 O2 (hiz), 25 O1 (hiz), 26 O0 (hiz), 27 ~{OE}3 (in), 28 VCC (power)

## 54F825SDM
designator U?
8-Bit D-Type Flip-Flop; Published: 15-Apr-2002; LatestRevisionDate: 06-Jun-2005; LatestRevisionNote: Stylized 3D Model Added.; DatasheetVersion: Dec-1994; PackageVersion: 2000; PackageReference: J24F; Publisher: Altium Limited; PackageDescription: DIP; 24 Leads; Row Spacing 7.62 mm; Pitch 2.54 mm; Code_JEDEC: MS-001-AF; ComponentLink1Description: Manufacturer Link; ComponentLink1URL: http://www.national.com/; ComponentLink2Description: Datasheet; ComponentLink2URL: http://www.national.com/ds.cgi/54/54F825.pdf; ComponentLink3Description: URL Link1; ComponentLink3URL: http://www.national.com/pf/54/54F825.html
footprint J24F (DIP; 24 Leads; Row Spacing 7.62 mm; Pitch 2.54 mm)
3D model N24C (DIP; 24 Leads; Row Spacing 7.62 mm; Pitch 2.54 mm)
signal-integrity model 54F825SDM
pins: 1 ~{OE}1 (in), 2 ~{OE}2 (in), 3 D0 (in), 4 D1 (in), 5 D2 (in), 6 D3 (in), 7 D4 (in), 8 D5 (in), 9 D6 (in), 10 D7 (in), 11 ~{CLR} (in), 12 GND (power), 13 CLK (in), 14 ~{CKEN} (in), 15 O7 (hiz), 16 O6 (hiz), 17 O5 (hiz), 18 O4 (hiz), 19 O3 (hiz), 20 O2 (hiz), 21 O1 (hiz), 22 O0 (hiz), 23 ~{OE}3 (in), 24 VCC (power)

## 54FCT273DMQB
designator U?
Octal D-Type Flip-Flop; Published: 15-Apr-2002; LatestRevisionDate: 06-Jun-2005; LatestRevisionNote: Stylized 3D Model Added.; DatasheetVersion: Aug-1998; PackageVersion: 2000; PackageReference: J20A; Publisher: Altium Limited; PackageDescription: DIP; 20 Leads; Row Spacing 7.62 mm; Pitch 2.54 mm; Code_JEDEC: MS-015-AE; ComponentLink1Description: Manufacturer Link; ComponentLink1URL: http://www.national.com/; ComponentLink2Description: Datasheet; ComponentLink2URL: http://www.national.com/ds.cgi/54/54FCT273.pdf; ComponentLink3Description: URL Link1; ComponentLink3URL: http://www.national.com/pf/54/54FCT273.html
footprint J20A (DIP; 20 Leads; Row Spacing 7.62 mm; Pitch 2.54 mm)
3D model J20A (DIP; 20 Leads; Row Spacing 7.62 mm; Pitch 2.54 mm)
simulation model 74LS273 (SIMCODE)
signal-integrity model 54FCT273DMQB
pins: 1 ~{RST} (in), 2 Q0 (out), 3 D0 (in), 4 D1 (in), 5 Q1 (out), 6 Q2 (out), 7 D2 (in), 8 D3 (in), 9 Q3 (out), 10 GND (power), 11 CLK (in), 12 Q4 (out), 13 D4 (in), 14 D5 (in), 15 Q5 (out), 16 Q6 (out), 17 D6 (in), 18 D7 (in), 19 Q7 (out), 20 VCC (power)

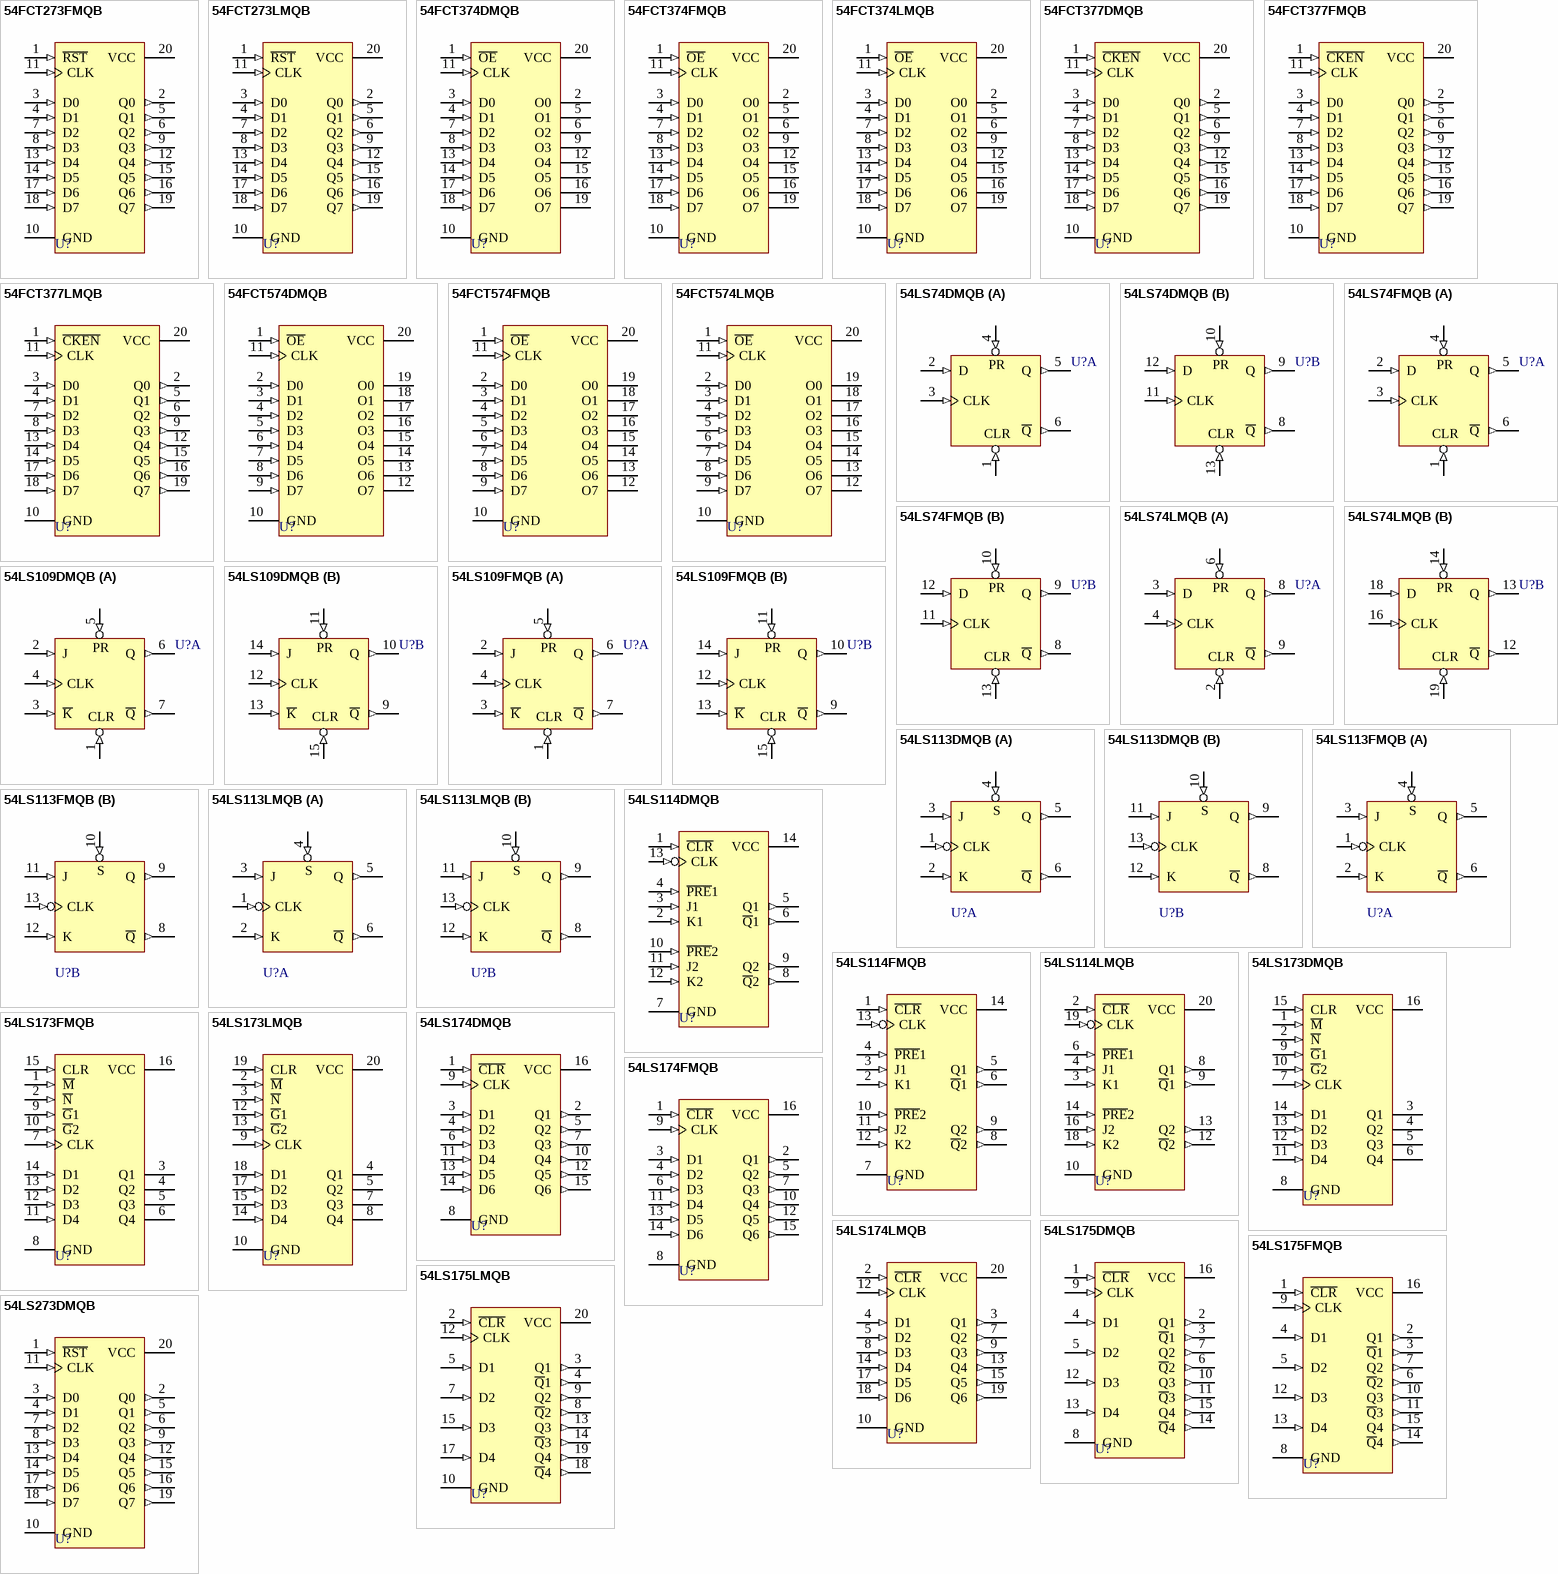
[diagram p4: symbols 54FCT273FMQB to 54LS273DMQB]

## 54FCT273FMQB
designator U?
Octal D-Type Flip-Flop; Published: 15-Apr-2002; LatestRevisionDate: 06-Jun-2005; LatestRevisionNote: Stylized 3D Model Added.; DatasheetVersion: Aug-1998; PackageVersion: 2000; PackageReference: W20A; Publisher: Altium Limited; PackageDescription: DFP; 20 Leads; Body 13.7 x 7.2 mm (LxW max); Pitch 1.27 mm; ComponentLink1Description: Manufacturer Link; ComponentLink1URL: http://www.national.com/; ComponentLink2Description: Datasheet; ComponentLink2URL: http://www.national.com/ds.cgi/54/54FCT273.pdf; ComponentLink3Description: URL Link1; ComponentLink3URL: http://www.national.com/pf/54/54FCT273.html
footprint W20A (DFP; 20 Leads; Body 13.7 x 7.2 mm (LxW max); Pitch 1.27 mm)
3D model W20A (DFP; 20 Leads; Body 13.7 x 7.2 mm (LxW max); Pitch 1.27 mm)
simulation model 74LS273 (SIMCODE)
signal-integrity model 54FCT273FMQB
pins: 1 ~{RST} (in), 2 Q0 (out), 3 D0 (in), 4 D1 (in), 5 Q1 (out), 6 Q2 (out), 7 D2 (in), 8 D3 (in), 9 Q3 (out), 10 GND (power), 11 CLK (in), 12 Q4 (out), 13 D4 (in), 14 D5 (in), 15 Q5 (out), 16 Q6 (out), 17 D6 (in), 18 D7 (in), 19 Q7 (out), 20 VCC (power)

## 54FCT273LMQB
designator U?
Octal D-Type Flip-Flop; Published: 15-Apr-2002; DatasheetVersion: Aug-1998; PackageVersion: 2000; PackageReference: E20A; Publisher: Altium Limited; PackageDescription: Leadless Chip Carrier; 20 Terminals; Body 8.9 x 8.9 mm; ComponentLink1Description: Manufacturer Link; ComponentLink1URL: http://www.national.com/; ComponentLink2Description: Datasheet; ComponentLink2URL: http://www.national.com/ds.cgi/54/54FCT273.pdf; ComponentLink3Description: URL Link1; ComponentLink3URL: http://www.national.com/pf/54/54FCT273.html
footprint E20A (Leadless Chip Carrier; 20 Terminals; Body 8.9 x 8.9 mm)
signal-integrity model 54FCT273LMQB
pins: 1 ~{RST} (in), 2 Q0 (out), 3 D0 (in), 4 D1 (in), 5 Q1 (out), 6 Q2 (out), 7 D2 (in), 8 D3 (in), 9 Q3 (out), 10 GND (power), 11 CLK (in), 12 Q4 (out), 13 D4 (in), 14 D5 (in), 15 Q5 (out), 16 Q6 (out), 17 D6 (in), 18 D7 (in), 19 Q7 (out), 20 VCC (power)

## 54FCT374DMQB
designator U?
Octal D-Type Flip-Flop with Tri-State Output; Published: 15-Apr-2002; LatestRevisionDate: 06-Jun-2005; LatestRevisionNote: Stylized 3D Model Added.; DatasheetVersion: Sep-1998; PackageVersion: 2000; PackageReference: J20A; Publisher: Altium Limited; PackageDescription: DIP; 20 Leads; Row Spacing 7.62 mm; Pitch 2.54 mm; Code_JEDEC: MS-015-AE; ComponentLink1Description: Manufacturer Link; ComponentLink1URL: http://www.national.com/; ComponentLink2Description: Datasheet; ComponentLink2URL: http://www.national.com/ds.cgi/54/54FCT374.pdf; ComponentLink3Description: URL Link1; ComponentLink3URL: http://www.national.com/pf/54/54FCT374.html
footprint J20A (DIP; 20 Leads; Row Spacing 7.62 mm; Pitch 2.54 mm)
3D model J20A (DIP; 20 Leads; Row Spacing 7.62 mm; Pitch 2.54 mm)
simulation model 74F374 (SIMCODE)
signal-integrity model 54FCT374DMQB
pins: 1 ~{OE} (in), 2 O0 (hiz), 3 D0 (in), 4 D1 (in), 5 O1 (hiz), 6 O2 (hiz), 7 D2 (in), 8 D3 (in), 9 O3 (hiz), 10 GND (power), 11 CLK (in), 12 O4 (hiz), 13 D4 (in), 14 D5 (in), 15 O5 (hiz), 16 O6 (hiz), 17 D6 (in), 18 D7 (in), 19 O7 (hiz), 20 VCC (power)

## 54FCT374FMQB
designator U?
Octal D-Type Flip-Flop with Tri-State Output; Published: 15-Apr-2002; LatestRevisionDate: 06-Jun-2005; LatestRevisionNote: Stylized 3D Model Added.; DatasheetVersion: Sep-1998; PackageVersion: 2000; PackageReference: W20A; Publisher: Altium Limited; PackageDescription: DFP; 20 Leads; Body 13.7 x 7.2 mm (LxW max); Pitch 1.27 mm; ComponentLink1Description: Manufacturer Link; ComponentLink1URL: http://www.national.com/; ComponentLink2Description: Datasheet; ComponentLink2URL: http://www.national.com/ds.cgi/54/54FCT374.pdf; ComponentLink3Description: URL Link1; ComponentLink3URL: http://www.national.com/pf/54/54FCT374.html
footprint W20A (DFP; 20 Leads; Body 13.7 x 7.2 mm (LxW max); Pitch 1.27 mm)
3D model W20A (DFP; 20 Leads; Body 13.7 x 7.2 mm (LxW max); Pitch 1.27 mm)
simulation model 74F374 (SIMCODE)
signal-integrity model 54FCT374FMQB
pins: 1 ~{OE} (in), 2 O0 (hiz), 3 D0 (in), 4 D1 (in), 5 O1 (hiz), 6 O2 (hiz), 7 D2 (in), 8 D3 (in), 9 O3 (hiz), 10 GND (power), 11 CLK (in), 12 O4 (hiz), 13 D4 (in), 14 D5 (in), 15 O5 (hiz), 16 O6 (hiz), 17 D6 (in), 18 D7 (in), 19 O7 (hiz), 20 VCC (power)

## 54FCT374LMQB
designator U?
Octal D-Type Flip-Flop with Tri-State Output; Published: 15-Apr-2002; DatasheetVersion: Sep-1998; PackageVersion: 2000; PackageReference: E20A; Publisher: Altium Limited; PackageDescription: Leadless Chip Carrier; 20 Terminals; Body 8.9 x 8.9 mm; ComponentLink1Description: Manufacturer Link; ComponentLink1URL: http://www.national.com/; ComponentLink2Description: Datasheet; ComponentLink2URL: http://www.national.com/ds.cgi/54/54FCT374.pdf; ComponentLink3Description: URL Link1; ComponentLink3URL: http://www.national.com/pf/54/54FCT374.html
footprint E20A (Leadless Chip Carrier; 20 Terminals; Body 8.9 x 8.9 mm)
simulation model 74F374 (SIMCODE)
signal-integrity model 54FCT374LMQB
pins: 1 ~{OE} (in), 2 O0 (hiz), 3 D0 (in), 4 D1 (in), 5 O1 (hiz), 6 O2 (hiz), 7 D2 (in), 8 D3 (in), 9 O3 (hiz), 10 GND (power), 11 CLK (in), 12 O4 (hiz), 13 D4 (in), 14 D5 (in), 15 O5 (hiz), 16 O6 (hiz), 17 D6 (in), 18 D7 (in), 19 O7 (hiz), 20 VCC (power)

## 54FCT377DMQB
designator U?
Octal D-Type Flip-Flop with Clock Enable; Published: 15-Apr-2002; LatestRevisionDate: 06-Jun-2005; LatestRevisionNote: Stylized 3D Model Added.; DatasheetVersion: Oct-1990; PackageVersion: 2000; PackageReference: J20A; Publisher: Altium Limited; PackageDescription: DIP; 20 Leads; Row Spacing 7.62 mm; Pitch 2.54 mm; Code_JEDEC: MS-015-AE; ComponentLink1Description: Manufacturer Link; ComponentLink1URL: http://www.national.com/; ComponentLink2Description: Datasheet; ComponentLink2URL: http://www.national.com/ds.cgi/54/54FCT377.pdf; ComponentLink3Description: URL Link1; ComponentLink3URL: http://www.national.com/pf/54/54FCT377.html
footprint J20A (DIP; 20 Leads; Row Spacing 7.62 mm; Pitch 2.54 mm)
3D model J20A (DIP; 20 Leads; Row Spacing 7.62 mm; Pitch 2.54 mm)
simulation model 74F377 (SIMCODE)
signal-integrity model 54FCT377DMQB
pins: 1 ~{CKEN} (in), 2 Q0 (out), 3 D0 (in), 4 D1 (in), 5 Q1 (out), 6 Q2 (out), 7 D2 (in), 8 D3 (in), 9 Q3 (out), 10 GND (power), 11 CLK (in), 12 Q4 (out), 13 D4 (in), 14 D5 (in), 15 Q5 (out), 16 Q6 (out), 17 D6 (in), 18 D7 (in), 19 Q7 (out), 20 VCC (power)

## 54FCT377FMQB
designator U?
Octal D-Type Flip-Flop with Clock Enable; Published: 15-Apr-2002; LatestRevisionDate: 06-Jun-2005; LatestRevisionNote: Stylized 3D Model Added.; DatasheetVersion: Oct-1990; PackageVersion: 2000; PackageReference: W20A; Publisher: Altium Limited; PackageDescription: DFP; 20 Leads; Body 13.7 x 7.2 mm (LxW max); Pitch 1.27 mm; ComponentLink1Description: Manufacturer Link; ComponentLink1URL: http://www.national.com/; ComponentLink2Description: Datasheet; ComponentLink2URL: http://www.national.com/ds.cgi/54/54FCT377.pdf; ComponentLink3Description: URL Link1; ComponentLink3URL: http://www.national.com/pf/54/54FCT377.html
footprint W20A (DFP; 20 Leads; Body 13.7 x 7.2 mm (LxW max); Pitch 1.27 mm)
3D model W20A (DFP; 20 Leads; Body 13.7 x 7.2 mm (LxW max); Pitch 1.27 mm)
simulation model 74F377 (SIMCODE)
signal-integrity model 54FCT377FMQB
pins: 1 ~{CKEN} (in), 2 Q0 (out), 3 D0 (in), 4 D1 (in), 5 Q1 (out), 6 Q2 (out), 7 D2 (in), 8 D3 (in), 9 Q3 (out), 10 GND (power), 11 CLK (in), 12 Q4 (out), 13 D4 (in), 14 D5 (in), 15 Q5 (out), 16 Q6 (out), 17 D6 (in), 18 D7 (in), 19 Q7 (out), 20 VCC (power)

## 54FCT377LMQB
designator U?
Octal D-Type Flip-Flop with Clock Enable; Published: 15-Apr-2002; DatasheetVersion: Oct-1990; PackageVersion: 2000; PackageReference: E20A; Publisher: Altium Limited; PackageDescription: Leadless Chip Carrier; 20 Terminals; Body 8.9 x 8.9 mm; ComponentLink1Description: Manufacturer Link; ComponentLink1URL: http://www.national.com/; ComponentLink2Description: Datasheet; ComponentLink2URL: http://www.national.com/ds.cgi/54/54FCT377.pdf; ComponentLink3Description: URL Link1; ComponentLink3URL: http://www.national.com/pf/54/54FCT377.html
footprint E20A (Leadless Chip Carrier; 20 Terminals; Body 8.9 x 8.9 mm)
simulation model 74F377 (SIMCODE)
signal-integrity model 54FCT377LMQB
pins: 1 ~{CKEN} (in), 2 Q0 (out), 3 D0 (in), 4 D1 (in), 5 Q1 (out), 6 Q2 (out), 7 D2 (in), 8 D3 (in), 9 Q3 (out), 10 GND (power), 11 CLK (in), 12 Q4 (out), 13 D4 (in), 14 D5 (in), 15 Q5 (out), 16 Q6 (out), 17 D6 (in), 18 D7 (in), 19 Q7 (out), 20 VCC (power)

## 54FCT574DMQB
designator U?
Octal D-Type Flip-Flop with Tri-State Output; Published: 15-Apr-2002; LatestRevisionDate: 06-Jun-2005; LatestRevisionNote: Stylized 3D Model Added.; DatasheetVersion: Oct-1990; PackageVersion: 2000; PackageReference: J20A; Publisher: Altium Limited; PackageDescription: DIP; 20 Leads; Row Spacing 7.62 mm; Pitch 2.54 mm; Code_JEDEC: MS-015-AE; ComponentLink1Description: Manufacturer Link; ComponentLink1URL: http://www.national.com/; ComponentLink2Description: Datasheet; ComponentLink2URL: http://www.national.com/ds.cgi/54/54FCT574.pdf; ComponentLink3Description: URL Link1; ComponentLink3URL: http://www.national.com/pf/54/54FCT574.html
footprint J20A (DIP; 20 Leads; Row Spacing 7.62 mm; Pitch 2.54 mm)
3D model J20A (DIP; 20 Leads; Row Spacing 7.62 mm; Pitch 2.54 mm)
signal-integrity model 54FCT574DMQB
pins: 1 ~{OE} (in), 2 D0 (in), 3 D1 (in), 4 D2 (in), 5 D3 (in), 6 D4 (in), 7 D5 (in), 8 D6 (in), 9 D7 (in), 10 GND (power), 11 CLK (in), 12 O7 (hiz), 13 O6 (hiz), 14 O5 (hiz), 15 O4 (hiz), 16 O3 (hiz), 17 O2 (hiz), 18 O1 (hiz), 19 O0 (hiz), 20 VCC (power)

## 54FCT574FMQB
designator U?
Octal D-Type Flip-Flop with Tri-State Output; Published: 15-Apr-2002; LatestRevisionDate: 06-Jun-2005; LatestRevisionNote: Stylized 3D Model Added.; DatasheetVersion: Oct-1990; PackageVersion: 2000; PackageReference: W20A; Publisher: Altium Limited; PackageDescription: DFP; 20 Leads; Body 13.7 x 7.2 mm (LxW max); Pitch 1.27 mm; ComponentLink1Description: Manufacturer Link; ComponentLink1URL: http://www.national.com/; ComponentLink2Description: Datasheet; ComponentLink2URL: http://www.national.com/ds.cgi/54/54FCT574.pdf; ComponentLink3Description: URL Link1; ComponentLink3URL: http://www.national.com/pf/54/54FCT574.html
footprint W20A (DFP; 20 Leads; Body 13.7 x 7.2 mm (LxW max); Pitch 1.27 mm)
3D model W20A (DFP; 20 Leads; Body 13.7 x 7.2 mm (LxW max); Pitch 1.27 mm)
signal-integrity model 54FCT574FMQB
pins: 1 ~{OE} (in), 2 D0 (in), 3 D1 (in), 4 D2 (in), 5 D3 (in), 6 D4 (in), 7 D5 (in), 8 D6 (in), 9 D7 (in), 10 GND (power), 11 CLK (in), 12 O7 (hiz), 13 O6 (hiz), 14 O5 (hiz), 15 O4 (hiz), 16 O3 (hiz), 17 O2 (hiz), 18 O1 (hiz), 19 O0 (hiz), 20 VCC (power)

## 54FCT574LMQB
designator U?
Octal D-Type Flip-Flop with Tri-State Output; Published: 15-Apr-2002; DatasheetVersion: Oct-1990; PackageVersion: 2000; PackageReference: E20A; Publisher: Altium Limited; PackageDescription: Leadless Chip Carrier; 20 Terminals; Body 8.9 x 8.9 mm; ComponentLink1Description: Manufacturer Link; ComponentLink1URL: http://www.national.com/; ComponentLink2Description: Datasheet; ComponentLink2URL: http://www.national.com/ds.cgi/54/54FCT574.pdf; ComponentLink3Description: URL Link1; ComponentLink3URL: http://www.national.com/pf/54/54FCT574.html
footprint E20A (Leadless Chip Carrier; 20 Terminals; Body 8.9 x 8.9 mm)
signal-integrity model 54FCT574LMQB
pins: 1 ~{OE} (in), 2 D0 (in), 3 D1 (in), 4 D2 (in), 5 D3 (in), 6 D4 (in), 7 D5 (in), 8 D6 (in), 9 D7 (in), 10 GND (power), 11 CLK (in), 12 O7 (hiz), 13 O6 (hiz), 14 O5 (hiz), 15 O4 (hiz), 16 O3 (hiz), 17 O2 (hiz), 18 O1 (hiz), 19 O0 (hiz), 20 VCC (power)

## 54LS74DMQB
designator U?
Dual Positive-Edge-Triggered D-Type Flip-Flop with Preset, Clear and Complementary Output; Published: 15-Apr-2002; LatestRevisionDate: 06-Jun-2005; LatestRevisionNote: Stylized 3D Model Added.; DatasheetVersion: Jun-1989; PackageVersion: 2000; PackageReference: J14A; Publisher: Altium Limited; PackageDescription: DIP; 14 Leads; Row Spacing 7.62 mm; Pitch 2.54 mm; ComponentLink1Description: Manufacturer Link; ComponentLink1URL: http://www.national.com/; ComponentLink2Description: Datasheet; ComponentLink2URL: http://www.national.com/ds.cgi/54/54LS74.pdf; ComponentLink3Description: URL Link1; ComponentLink3URL: http://www.national.com/pf/54/54LS74.html
footprint J14A (DIP; 14 Leads; Row Spacing 7.62 mm; Pitch 2.54 mm)
3D model J14A (DIP; 14 Leads; Row Spacing 7.62 mm; Pitch 2.54 mm)
simulation model 74LS74 (SIMCODE)
signal-integrity model 54LS74DMQB
pins on every part: 7 GND (power) hidden to GND, 14 VCC (power) hidden to VCC
part A pins: 1 CLR (in), 2 D (in), 3 CLK (in), 4 PR (in), 5 Q (out), 6 ~{Q} (out)
part B pins: 8 ~{Q} (out), 9 Q (out), 10 PRE (in), 11 CLK (in), 12 D (in), 13 CLR (in)